# Altium footprint library Tantalum_Capacitor.PcbLib: 7 footprints
Each footprint in its own frame and in the unit in brackets; x right, y up, seen from the top. Pads: shape width x height; smd on the part's side, far side on the other; paste and mask are expansions set on the pad; w line width, h text height; cw(c..) or ccw(c..) is an arc to the next point about the centre after c.
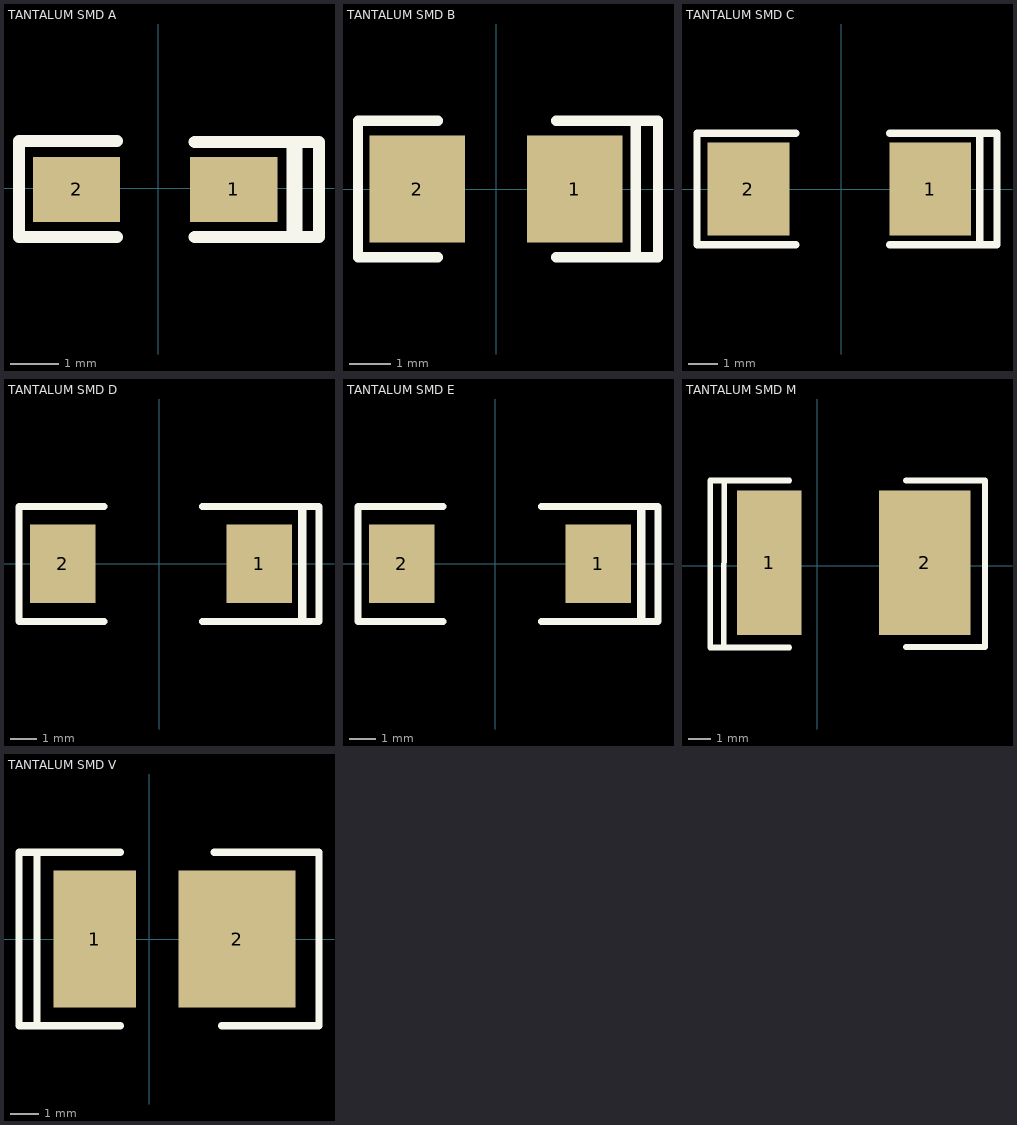
[diagram p0: the footprints below, top view; thin cyan lines are the x and y axes]

## TANTALUM SMD A [mil] "SMD TIPO A 3.2x1.6x1.6"
pads (2):
  rect 71.5x53.5 smd: 1(62,-1) 2(-67,-1)
Top Overlay:
  lines w10: -34,-40 -114.4,-40 -114.4,38.8 -34,38.8 ; 30,-40 132,-40 132,38 30,38
  lines w13: 112,-38 112,36
3D body "ctantal_case-a_l3-2_w1-6_h1-6.stp": height 62.99, standoff 0, extent -62.99,-31.5 62.99,31.5

## TANTALUM SMD B [mm] "SMD TIPO B 3.5x2.8x1.9"
pads (2):
  rect 2.3x2.6 smd: 1(1.905,0) 2(-1.905,0)
Top Overlay:
  lines w0.254: -1.412,-1.65 -3.339,-1.65 -3.339,1.65 -1.412,1.65 ; 1.458,-1.65 3.385,-1.65 ; 1.458,1.65 3.385,1.65 ; 3.385,-1.65 3.385,1.65 ; 3.385,-1.65 3.918,-1.65 3.918,1.65 3.385,1.65
3D body "ctantal_case-b_l3-5_w2-8_h1-9.stp": height 1.9, standoff 0, extent -1.75,-1.4 1.75,1.4

## TANTALUM SMD C [mm] "SMD TIPO C 6.0x3.2x2.2"
pads (2):
  rect 2.8x3.2 smd: 1(3.048,0) 2(-3.175,0)
Top Overlay:
  lines w0.254: -1.556,-1.905 -4.934,-1.905 -4.934,1.905 -1.556,1.905 ; 1.657,-1.905 4.744,-1.905 4.744,1.905 1.657,1.905 ; 4.699,-1.905 5.334,-1.905 5.334,1.905 4.699,1.905
3D body "ctantal_case-c_l6-0_w3-2_h2-5.stp": height 2.5, standoff 0, extent -3,-1.6 3,1.6

## TANTALUM SMD D [mil] "SMD TIPO D 7.3x4.3x2.4"
pads (2):
  rect 98.42x118.5 smd: 1(150,0) 2(-145,0)
Top Overlay:
  lines w10: -83,-87 -211,-87 -211,86 -83,86 ; 65,-87 64.7,-87 240,-87 240,86 189.9,86 64.7,86 65,86
  lines w13: 215,-85 215,84.29
3D body "ctantal_case-d_l7-3_w4-3_h2-8.stp": height 110.24, standoff 0, extent -143.7,-84.65 143.7,84.65

## TANTALUM SMD E [mil] "SMD TIPO E  7.3x4.3x4.1"
pads (2):
  rect 98.42x118.5 smd: 1(155,0) 2(-140,0)
Top Overlay:
  lines w10: -78,-87 -206,-87 -206,86 -78,86 ; 70,-87 69.7,-87 245,-87 245,86 194.9,86 69.7,86 70,86
  lines w13: 220,-85 220,84.29
3D body "ctantal_case-d_l7-3_w4-3_h2-8.stp": height 110.24, standoff 0, extent -138.7,-84.65 148.7,84.65

## TANTALUM SMD M [mm] "SMD TIPO M 7.2 X 6.0"
pads (2):
  rect 2.9x6.5 smd: 1(-2.165,0.127)
  rect 4.1x6.5 smd: 2(4.835,0.127)
Top Overlay:
  lines w0.254: -4.216,-3.607 -4.189,3.835 ; -1.27,-3.683 -4.826,-3.683 -4.826,3.835 -1.27,3.835 ; 3.988,-3.658 7.488,-3.658 ; 3.988,3.835 7.488,3.835 ; 7.544,-3.658 7.544,3.835
Mechanical 13:
  region: -1.115,-2.252 -3.121,-2.252 -3.121,2.502 -1.115,2.502
3D body "CAP_J108KMC_AVX.step": height 2.01, standoff 0, extent -2.4,-2.972 5.092,3.328

## TANTALUM SMD V [mm] "SMD TIPO V 7.3 x 6.1"
pads (2):
  rect 2.9x4.8 smd: 1(-1.911,0)
  rect 4.1x4.8 smd: 2(3.089,0)
Top Overlay:
  lines w0.254: -3.937,-3.048 -3.937,3.048 ; -1.016,-3.048 -4.572,-3.048 -4.572,3.048 -1.016,3.048 ; 2.286,3.048 5.969,3.048 5.969,-3.048 2.54,-3.048
Mechanical 13:
  region: -0.861,-2.379 -2.867,-2.379 -2.867,2.375 -0.861,2.375
3D body "step_temp.STEP": height 2, standoff 0, extent -2.761,-3.05 4.539,3.05